# Altium footprint library PcbLib.PcbLib: 7 footprints
Each footprint in its own frame and in the unit in brackets; x right, y up, seen from the top. Pads: shape width x height; smd on the part's side, far side on the other; paste and mask are expansions set on the pad; w line width, h text height; cw(c..) or ccw(c..) is an arc to the next point about the centre after c.
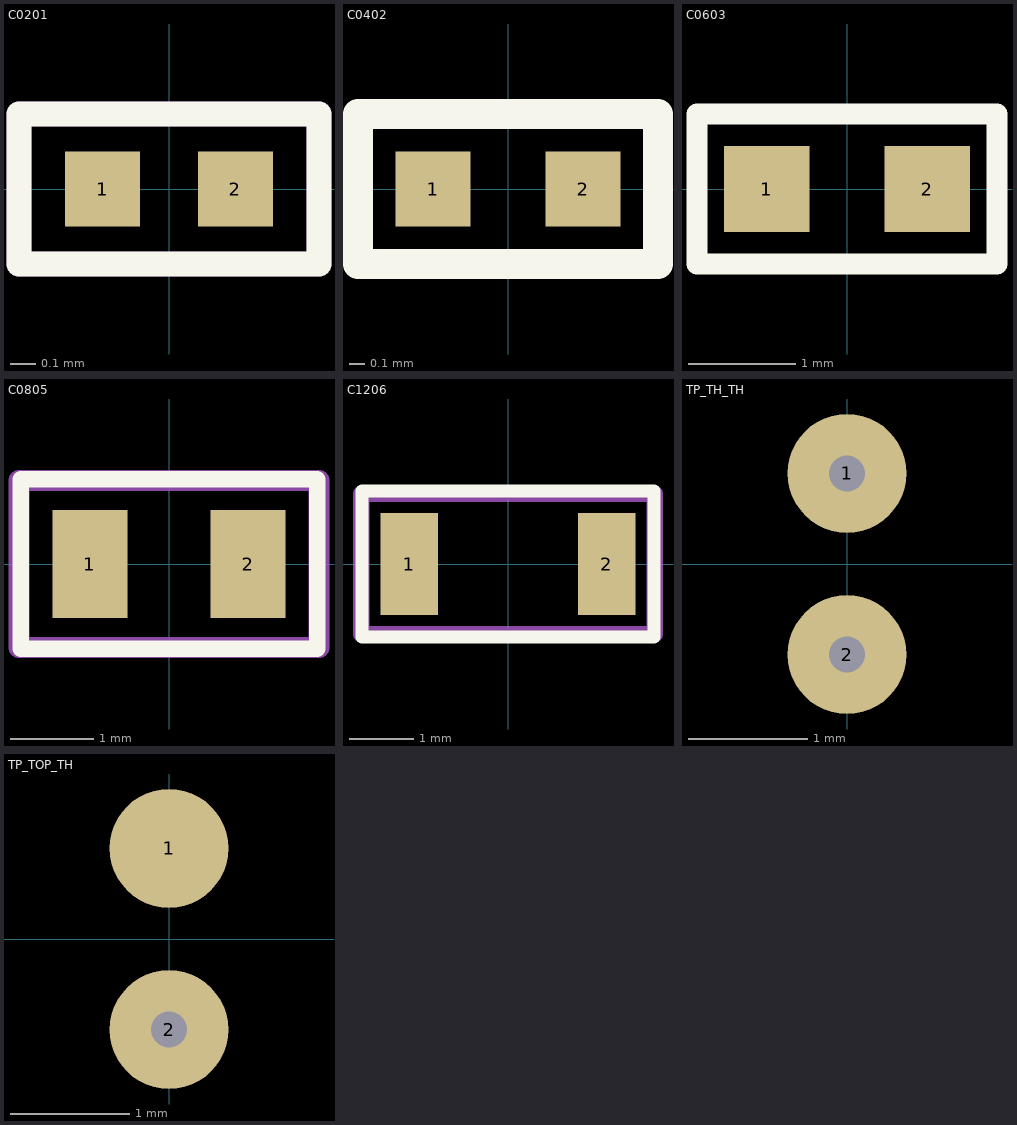
[diagram p0: the footprints below, top view; thin cyan lines are the x and y axes]

## C0201 [mm] "Creator MM"
pads (2):
  rect 0.3x0.3 smd mask+0.04: 1(-0.265,0) 2(0.265,0)
Top Overlay:
  lines w0.1: -0.6,-0.3 0.6,-0.3 0.6,0.3 -0.6,0.3 -0.6,-0.3
Mechanical 29:
  lines w0.1: -0.6,-0.3 0.6,-0.3 0.6,0.3 -0.6,0.3 -0.6,-0.3
  text ".Designator" at -0.4,-0.1 h0.25
3D body "C0201.step": height 0.3, standoff 0, extent -0.3,-0.15 0.3,0.15

## C0402 [mm]
pads (2):
  rect 0.5x0.5 smd: 1(-0.5,0) 2(0.5,0)
Top Overlay:
  lines w0.2: -1,-0.5 1,-0.5 1,0.5 -1,0.5 -1,-0.5
Mechanical 29:
  lines w0.15: -1,-0.5 1,-0.5 1,0.5 -1,0.5 -1,-0.5
  text ".Designator" at -0.8,-0.2 h0.4
3D body "CAPC1005X56N EIA 0402.step": height 0.56, standoff 0, extent -0.5,-0.25 0.5,0.25

## C0603 [mm]
pads (2):
  rect 0.8x0.8 smd: 1(-0.75,0) 2(0.75,0)
Top Overlay:
  lines w0.2: -1.4,-0.7 -1.4,0.7 1.4,0.7 1.4,-0.7 -1.4,-0.7
Mechanical 29:
  lines w0.15: -1.4,-0.7 1.4,-0.7 1.4,0.7 -1.4,0.7 -1.4,-0.7
  text ".Designator" at -1.1,-0.3 h0.6
3D body "C0603.step": height 0.79, standoff 0, extent -0.8,-0.425 0.8,0.435
3D body "C0603.step": height 0.95, standoff 0.15, extent -0.8,-0.425 0.8,0.435

## C0805 [mm]
pads (2):
  rect 0.9x1.3 smd: 1(-0.95,0) 2(0.95,0)
Top Overlay:
  lines w0.2: -1.778,-1.016 1.778,-1.016 1.778,1.016 -1.778,1.016 -1.778,-1.016
Mechanical 29:
  lines w0.254: -1.8,-1 1.8,-1 1.8,1 -1.8,1 -1.8,-1
  text ".Designator" at -1.5,-0.4 h0.6
3D body "CAPC2012X95N EIA 0805.step": height 0.95, standoff 0, extent -1,-0.6 1,0.6
3D body "CAPC2012X95N EIA 0805.step": height 1.5, standoff 0.55, extent -1,-0.6 1,0.6

## C1206 [mm]
pads (2):
  rect 0.9x1.6 smd: 1(-1.55,0) 2(1.55,0)
Top Overlay:
  lines w0.2: -2.286,-1.143 -2.286,1.143 2.286,1.143 2.286,-1.143 -2.286,-1.143
Mechanical 29:
  lines w0.254: -2.3,-1.1 2.3,-1.1 2.3,1.1 -2.3,1.1 -2.3,-1.1
  text ".Designator" at -1.7,-0.5 h1
3D body "CAPC3216X95N EIA 1206.step": height 0.95, standoff 0, extent -1.6,-0.8 1.6,0.8
3D body "CAPC3216X95N EIA 1206.step": height 1.8, standoff 0.85, extent -1.6,-0.8 1.6,0.8

## TP_TH_TH [mm]
pads (2):
  round 1 hole 0.3: 1(0,0.762) 2(0,-0.762)

## TP_TOP_TH [mm]
pads (2):
  round 1 smd: 1(0,0.762)
  round 1 hole 0.3: 2(0,-0.762)